# Altium schematic symbol library Mercury2.SchLib: 61 symbols
Pins are listed as number, name and electrical type; pins without a type are passive.

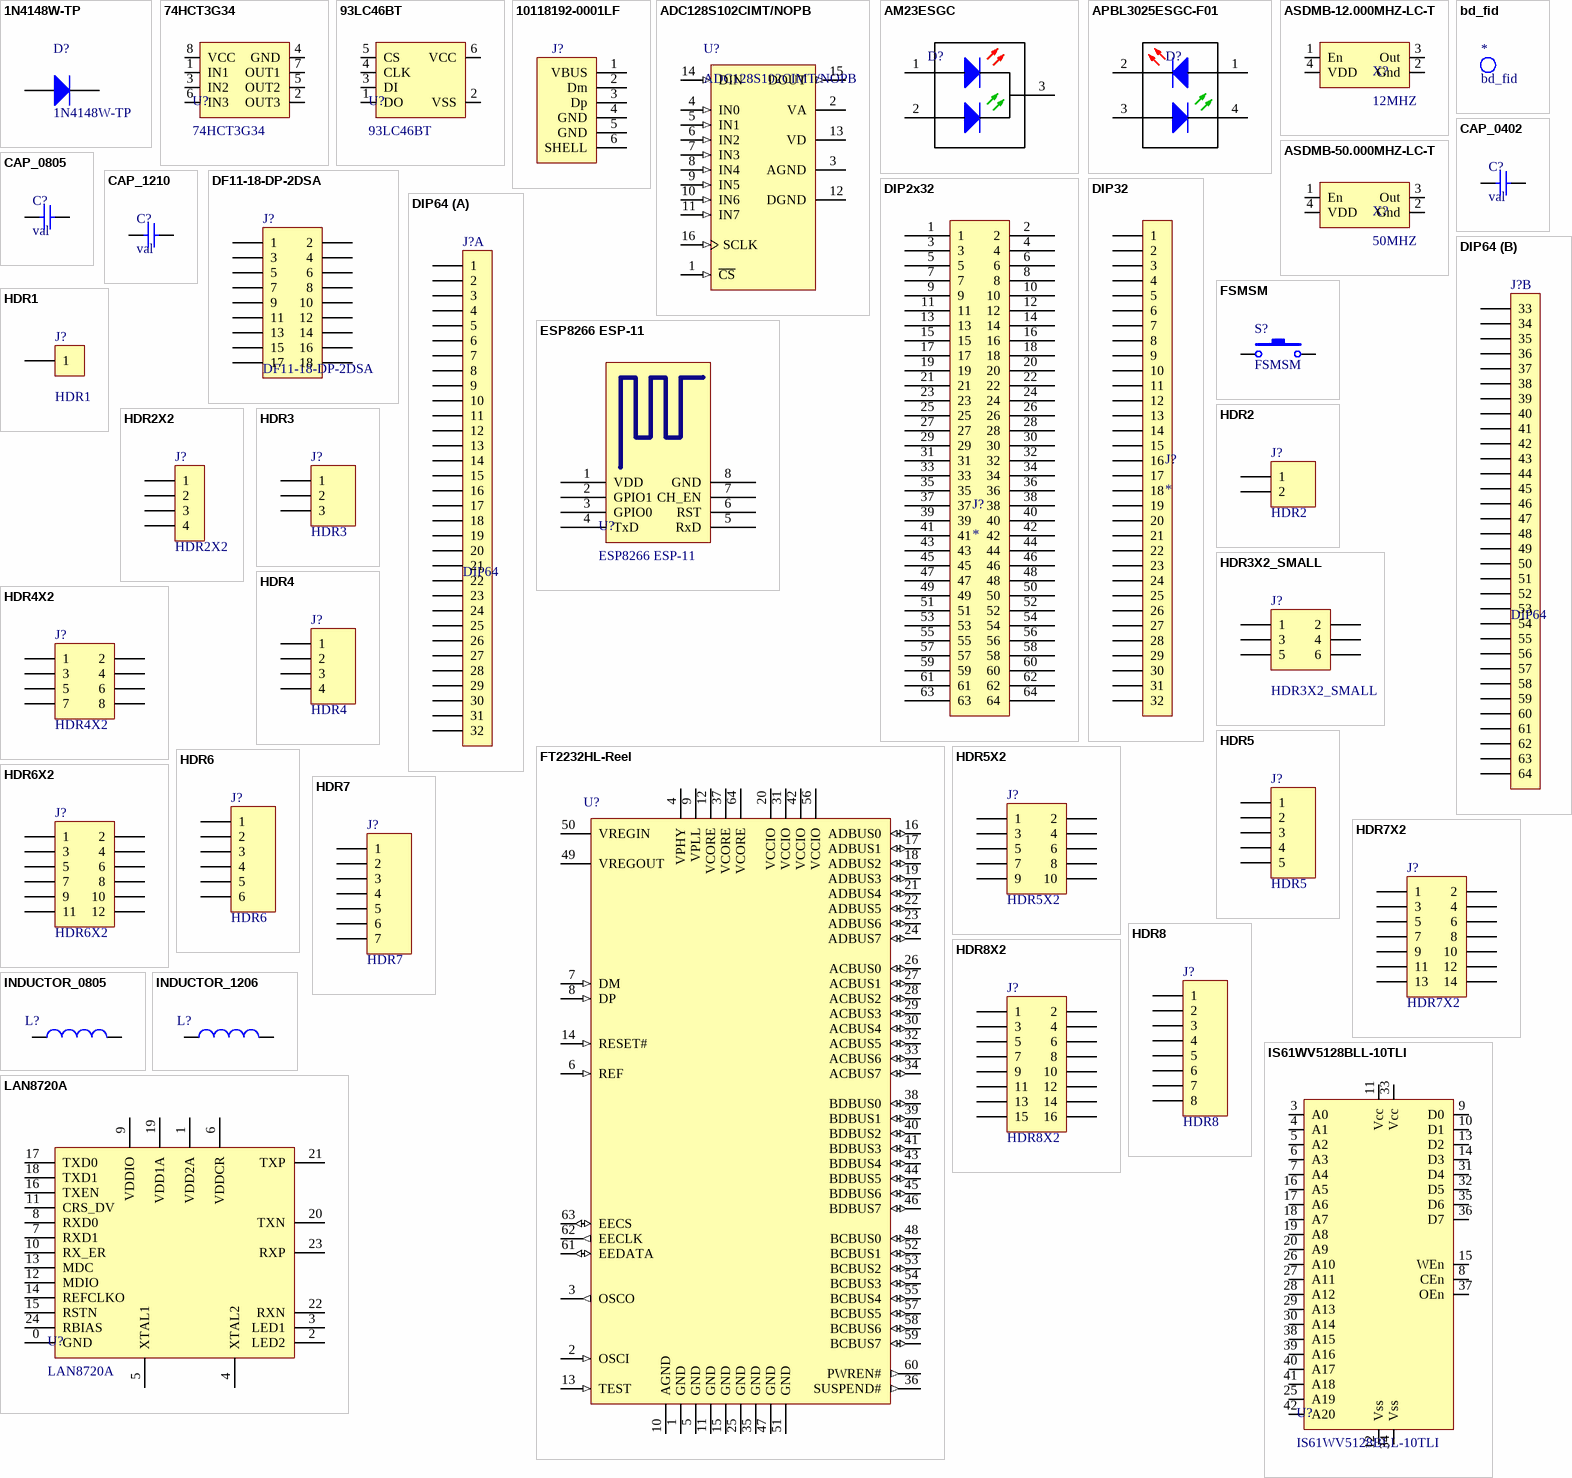
[diagram p0: symbols 1N4148W-TP to LAN8720A]

## 1N4148W-TP
designator D?
Diodes - General Purpose, Power, Switching 150mA 75V
footprint SOD-123 (Surface Mount Diode Package)
pins: 1 A, 2 K

## 74HCT3G34
designator U?
IC BUFFER TRIPLE NON-INV 8TSSOP
footprint TSSOP-8
pins: 1 IN1, 2 OUT3, 3 IN2, 4 GND, 5 OUT2, 6 IN3, 7 OUT1, 8 VCC

## 93LC46BT
designator U?
EEPROM 64x16
footprint SOT23-6
pins: 1 DO, 2 VSS, 3 DI, 4 CLK, 5 CS, 6 VCC

## 10118192-0001LF
designator J?, comment Micro USB B  (value not drawn)
5P MICRO USB TYPE B RECEPTACLE; MFG: FCI; MFG_PN: 10118192-0001LF
footprint 10118192-0001LF (FCI 5P MICRO USB TYPE B RECEPTACLE)
pins: 1 VBUS, 2 Dm, 3 Dp, 4 GND, 5 GND, 6 SHELL

## ADC128S102CIMT/NOPB
designator U?
ADC 8CH, 500KSPS TO 1MSPS 12B ADC; MFG: TI; MFG_PN: ADC128S102CIMT/NOPB
footprint MTC16_L (TSOP, 16-Leads, Body 5x4.4mm, Pitch 0.65mm, IPC High Density)
pins: 1 ~{CS} (in), 2 VA (power), 3 AGND (power), 4 IN0 (in), 5 IN1 (in), 6 IN2 (in), 7 IN3 (in), 8 IN4 (in), 9 IN5 (in), 10 IN6 (in), 11 IN7 (in), 12 DGND (power), 13 VD (power), 14 DIN (in), 15 DOUT (out), 16 SCLK (in)

## AM23ESGC
designator D?  (value not drawn)
SOT-23 SURFACE MOUNT LED LAMP
footprint SOT23-3N (SOT23, 3-Leads, Body 2.9x1.3mm, Pitch 0.95mm, Lead Span 2.5mm, IPC Medium Density)
pins: 1, 2, 3

## APBL3025ESGC-F01
designator D?  (value not drawn)
SMD RED/GREEN LED
footprint APBL3025ESGC
pins: 1, 2, 3, 4

## ASDMB-12.000MHZ-LC-T
designator X?, comment 12MHZ
ASDMB-12.000MHZ-LC-T
footprint ASDMB (MEMS Oscillator, 2mm W x 2.5 mm L)
pins: 1 En, 2 Gnd, 3 Out, 4 VDD

## ASDMB-50.000MHZ-LC-T
designator X?, comment 50MHZ
OSC MEMS 50.000 MHZ SMD; MFG: Abracon; MFG_PN: ASDMB-50.000MHZ-LC-T
footprint ASDMB (MEMS Oscillator, 2mm W x 2.5 mm L)
pins: 1 En, 2 Gnd, 3 Out, 4 VDD

## bd_fid
designator *  (no BOM)
board fiducial
footprint bd_fid

## CAP_0402
designator C?, comment val
Cap 0402
footprint C_0402 (Chip Capacitor, 2-Leads, Body 1.00x0.50mm)
pins: 1, 2

## CAP_0805
designator C?, comment val
Cap 0805
footprint C_0805 (Chip Capacitor; Body 2.0 x 1.2 mm (LxW typ))
pins: 1, 2

## CAP_1210
designator C?, comment val
Cap 1210
footprint C_1210 (Chip Capacitor, Body 3.2x2.5mm, Height 1mm, IPC Medium Density)
pins: 1, 2

## DF11-18-DP-2DSA
designator J?
Straight Pin Header
footprint DF11-18DP-2DSA
pins: 1, 2, 3, 4, 5, 6, 7, 8, 9, 10, 11, 12, 13, 14, 15, 16, 17, 18

## DIP2x32
designator J?
footprint DIP2x32
pins: 1, 2, 3, 4, 5, 6, 7, 8, 9, 10, 11, 12, 13, 14, 15, 16, 17, 18, 19, 20, 21, 22, 23, 24, 25, 26, 27, 28, 29, 30, 31, 32, 33, 34, 35, 36, 37, 38, 39, 40, 41, 42, 43, 44, 45, 46, 47, 48, 49, 50, 51, 52, 53, 54, 55, 56, 57, 58, 59, 60, 61, 62, 63, 64

## DIP32
designator J?
footprint DIP32
pins: 1, 2, 3, 4, 5, 6, 7, 8, 9, 10, 11, 12, 13, 14, 15, 16, 17, 18, 19, 20, 21, 22, 23, 24, 25, 26, 27, 28, 29, 30, 31, 32

## DIP64
designator J?
64PIN DIP PACKAGE
footprint dip64
part A pins: 1, 2, 3, 4, 5, 6, 7, 8, 9, 10, 11, 12, 13, 14, 15, 16, 17, 18, 19, 20, 21, 22, 23, 24, 25, 26, 27, 28, 29, 30, 31, 32
part B pins: 33, 34, 35, 36, 37, 38, 39, 40, 41, 42, 43, 44, 45, 46, 47, 48, 49, 50, 51, 52, 53, 54, 55, 56, 57, 58, 59, 60, 61, 62, 63, 64

## ESP8266 ESP-11
designator U?
footprint ESP8266 ESP-11
pins: 1 VDD, 2 GPIO1, 3 GPIO0, 4 TxD, 5 RxD, 6 RST, 7 CH_EN, 8 GND

## FSMSM
designator S?
Tactile Switches 3.5X6 SMT; MFG: TE Connectivity; MFG_PN: FSMSM
footprint FSMSM (Tactile Switches 3.5X6 SMT)
pins: 1, 2

## FT2232HL-Reel
designator U?
Dual High Speed USB To Multipurpose UART/FIFO IC, 64-pin LQFP, Tape and Reel; Manufacturer: FTDI; PartNumber: FT2232HL-Reel; DatasheetVersion: ver 2.21, Jun-2012; PackageVersion: Jun-12; PackageReference: LQFP-64; PackageDescription: 64-Pin Thin Quad Flat Pack, 10 x 10 x 1.4 mm Body, 0.5 mm Pitch; ComponentLink1Description: Manufacturer URL; ComponentLink1URL: http://www.ftdichip.com/; ComponentLink2Description: Datasheet; ComponentLink2URL: http://www.ftdichip.com/Support/Documents/DataSheets/ICs/DS_FT2232H.pdf
footprint LQFP-64_N (Thin QFP, 64-Leads, Body 10x10mm, Pitch 0.5mm, IPC Medium Density)
footprint LQFP-64_L (Thin QFP, 64-Leads, Body 10x10mm, Pitch 0.5mm, IPC High Density)
footprint LQFP-64_M (Thin QFP, 64-Leads, Body 10x10mm, Pitch 0.5mm, IPC Low Density)
pins: 1 GND (power), 2 OSCI (in), 3 OSCO (out), 4 VPHY (power), 5 GND (power), 6 REF (in), 7 DM (in), 8 DP (in), 9 VPLL (power), 10 AGND (power), 11 GND (power), 12 VCORE (power), 13 TEST (in), 14 RESET# (in), 15 GND (power), 16 ADBUS0 (io), 17 ADBUS1 (io), 18 ADBUS2 (io), 19 ADBUS3 (io), 20 VCCIO (power), 21 ADBUS4 (io), 22 ADBUS5 (io), 23 ADBUS6 (io), 24 ADBUS7 (io), 25 GND (power), 26 ACBUS0 (io), 27 ACBUS1 (io), 28 ACBUS2 (io), 29 ACBUS3 (io), 30 ACBUS4 (io), 31 VCCIO (power), 32 ACBUS5 (io), 33 ACBUS6 (io), 34 ACBUS7 (io), 35 GND (power), 36 SUSPEND# (out), 37 VCORE (power), 38 BDBUS0 (io), 39 BDBUS1 (io), 40 BDBUS2 (io), 41 BDBUS3 (io), 42 VCCIO (power), 43 BDBUS4 (io), 44 BDBUS5 (io), 45 BDBUS6 (io), 46 BDBUS7 (io), 47 GND (power), 48 BCBUS0 (io), 49 VREGOUT (power), 50 VREGIN (power), 51 GND (power), 52 BCBUS1 (io), 53 BCBUS2 (io), 54 BCBUS3 (io), 55 BCBUS4 (io), 56 VCCIO (power), 57 BCBUS5 (io), 58 BCBUS6 (io), 59 BCBUS7 (io), 60 PWREN# (out), 61 EEDATA (io), 62 EECLK (out), 63 EECS (io), 64 VCORE (power)

## HDR1
designator J?
Header, 1-Pin
footprint HDR1X1
pins: 1

## HDR2
designator J?
Header, 2-Pin
footprint HDR1X2 (Footprint not found)
pins: 1, 2

## HDR2X2
designator J?
Header, 2-Pin, Dual row
footprint HDR2X2 (Footprint not found)
pins: 1, 2, 3, 4

## HDR3
designator J?
Header, 3-Pin
footprint HDR1X3
pins: 1, 2, 3

## HDR3X2_SMALL
designator J?
Header, 3-Pin, Dual row
footprint HDR2X3_S
pins: 1, 2, 3, 4, 5, 6

## HDR4
designator J?
Header, 4-Pin
footprint HDR1X4
pins: 1, 2, 3, 4

## HDR4X2
designator J?
Header, 4-Pin, Dual row
footprint HDR2X4
pins: 1, 2, 3, 4, 5, 6, 7, 8

## HDR5
designator J?
Header, 5-Pin
footprint HDR1X5
pins: 1, 2, 3, 4, 5

## HDR5X2
designator J?
Header, 5-Pin, Dual row
footprint HDR2X5
pins: 1, 2, 3, 4, 5, 6, 7, 8, 9, 10

## HDR6
designator J?
Header, 6-Pin
footprint HDR1X6
pins: 1, 2, 3, 4, 5, 6

## HDR6X2
designator J?
Header, 6-Pin, Dual row
footprint HDR2X6
pins: 1, 2, 3, 4, 5, 6, 7, 8, 9, 10, 11, 12

## HDR7
designator J?
Header, 7-Pin
footprint HDR1X7
pins: 1, 2, 3, 4, 5, 6, 7

## HDR7X2
designator J?
Header, 7-Pin, Dual row
footprint HDR2X7 (Connector; Header; 7x2 Position)
pins: 1, 2, 3, 4, 5, 6, 7, 8, 9, 10, 11, 12, 13, 14

## HDR8
designator J?
Header, 8-Pin
footprint HDR1X8
pins: 1, 2, 3, 4, 5, 6, 7, 8

## HDR8X2
designator J?
Header, 8-Pin, Dual row
footprint HDR2X8 (Connector; Header; 8x2 Position)
pins: 1, 2, 3, 4, 5, 6, 7, 8, 9, 10, 11, 12, 13, 14, 15, 16

## INDUCTOR_0805
designator L?  (value not drawn)
INDUCTOR
footprint R_0805 (Chip Resistor; Body 2.0 x 1.3 mm (LxW typ))
pins: 1, 2

## INDUCTOR_1206
designator L?  (value not drawn)
INDUCTOR
footprint R_1206 (Chip Resistor; Body 3.2 x 1.6 mm (LxW typ))
pins: 1, 2

## IS61WV5128BLL-10TLI
designator U?
SRAM 4Mb (512k x 8) 10ns Async SRAM 3.3v
footprint TSOPII-44 (44-Pin Small Outline Package 0.8 mm Pitch, IPC Medium Density)
pins: 3 A0, 4 A1, 5 A2, 6 A3, 7 A4, 8 CEn, 9 D0, 10 D1, 11 Vcc, 12 Vss, 13 D2, 14 D3, 15 WEn, 16 A5, 17 A6, 18 A7, 19 A8, 20 A9, 25 A19, 26 A10, 27 A11, 28 A12, 29 A13, 30 A14, 31 D4, 32 D5, 33 Vcc, 34 Vss, 35 D6, 36 D7, 37 OEn, 38 A15, 39 A16, 40 A17, 41 A18, 42 A20

## LAN8720A
designator U?
Ethernet ICs RMII 10/100 ETH XCVR w/HP AutoMDIXSupport
footprint QFN-24-EP (24 Pin QFN with exposed pad 0.5mm spacing)
pins: 0 GND, 1 VDD2A, 2 LED2, 3 LED1, 4 XTAL2, 5 XTAL1, 6 VDDCR, 7 RXD1, 8 RXD0, 9 VDDIO, 10 RX_ER, 11 CRS_DV, 12 MDIO, 13 MDC, 14 REFCLKO, 15 RSTN, 16 TXEN, 17 TXD0, 18 TXD1, 19 VDD1A, 20 TXN, 21 TXP, 22 RXN, 23 RXP, 24 RBIAS

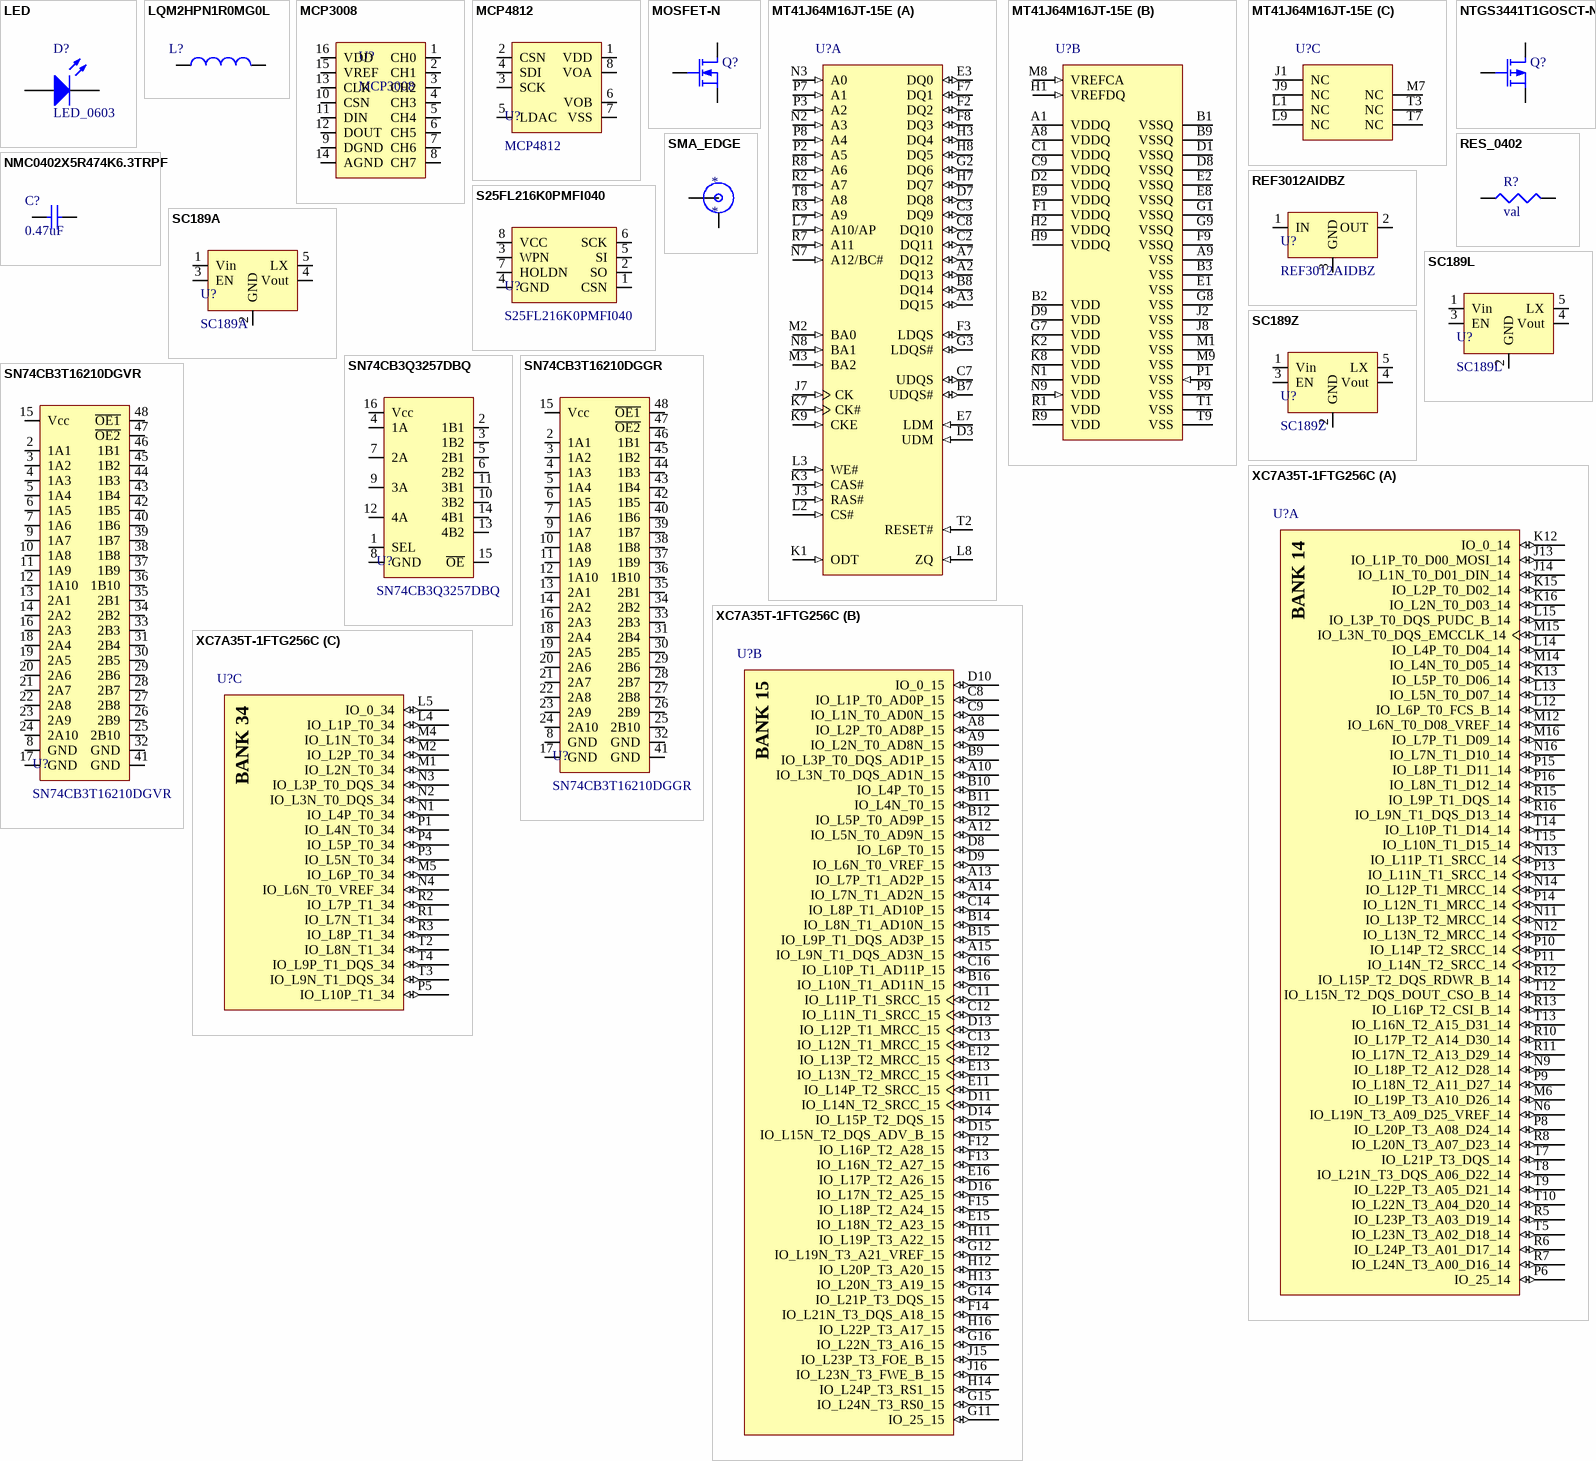
[diagram p1: symbols LED to XC7A35T-1FTG256C]

## LED
designator D?, comment LED_0603
MFG: Lite-On; MFG_PN: LTST-C194TBKT
footprint LED_0603 (from liteon datasheet, LTST-C194TBKT)
pins: A, C

## LQM2HPN1R0MG0L
designator L?  (value not drawn)
Fixed Inductors 1008 1.0uH 20%
footprint L_1008 (Footprint not found)
pins: 1, 2

## MCP3008
designator U?
IC ADC 10BIT 2.7V 8CH SPI 16SOIC
footprint SO16 (Small Outline; 16 Leads; Body Width 3.9 mm; Pitch 1.27 mm)
pins: 1 CH0, 2 CH1, 3 CH2, 4 CH3, 5 CH4, 6 CH5, 7 CH6, 8 CH7, 9 DGND, 10 CSN, 11 DIN, 12 DOUT, 13 CLK, 14 AGND, 15 VREF, 16 VDD

## MCP4812
designator U?
DAC Dual 10bit DAC w/SPI interface intnl Vref
footprint MSOP-8
pins: 1 VDD, 2 CSN, 3 SCK, 4 SDI, 5 LDAC, 6 VOB, 7 VSS, 8 VOA

## MOSFET-N
designator Q?
N-Channel MOSFET; Published: 8-Jun-2000; LatestRevisionDate: 17-Jul-2002; LatestRevisionNote: Re-released for DXP Platform.; PackageVersion: 1995/1996; PackageReference: E3; Publisher: Altium Limited
footprint SOT23-3N (SOT23, 3-Leads, Body 2.9x1.3mm, Pitch 0.95mm, Lead Span 2.5mm, IPC Medium Density)
pins: 1 G, 2 S, 3 D

## MT41J64M16JT-15E
designator U?
DDR3 SDRAM 1G-Bit 64Mx16 1.5V 96-Pin FBGA; MFG: Micron; MFG_PN: MT41J64M16JT-15E:G
footprint MICT-JT-96 (BGA, 96-Balls, Body 14x8mm, Pitch 0.8mm)
part A pins: A2 DQ13 (io) "Data input/output: Upper byte of bidirectional data bus for the x16 configuration. DQ[15:8] are referenced to VREFDQ.", A3 DQ15 (io) "Data input/output: Upper byte of bidirectional data bus for the x16 configuration. DQ[15:8] are referenced to VREFDQ.", A7 DQ12 (io) "Data input/output: Upper byte of bidirectional data bus for the x16 configuration. DQ[15:8] are referenced to VREFDQ.", B7 UDQS# (io) "Upper byte data strobe: Output with read data. Edge-aligned with read data. Input with write data. DQS is center-aligned to write data.", B8 DQ14 (io) "Data input/output: Upper byte of bidirectional data bus for the x16 configuration. DQ[15:8] are referenced to VREFDQ.", C2 DQ11 (io) "Data input/output: Upper byte of bidirectional data bus for the x16 configuration. DQ[15:8] are referenced to VREFDQ.", C3 DQ9 (io) "Data input/output: Upper byte of bidirectional data bus for the x16 configuration. DQ[15:8] are referenced to VREFDQ.", C7 UDQS (io) "Upper byte data strobe: Output with read data. Edge-aligned with read data. Input with write data. DQS is center-aligned to write data.", C8 DQ10 (io) "Data input/output: Upper byte of bidirectional data bus for the x16 configuration. DQ[15:8] are referenced to VREFDQ.", D3 UDM (in) "Input data mask: UDM is an upper-byte, input mask signal for write data. Upperbyte input data is masked when UDM is sampled HIGH along with that input data during a WRITE access. Although the UDM ball is input-only, the UDM (See Datasheet)", D7 DQ8 (io) "Data input/output: Upper byte of bidirectional data bus for the x16 configuration. DQ[15:8] are referenced to VREFDQ.", E3 DQ0 (io) "Data input/output: Lower byte of bidirectional data bus for the x16 configuration. DQ[7:0] are referenced to VREFDQ.", E7 LDM (in) "Input data mask: LDM is a lower-byte, input mask signal for write data. Lower-byte input data is masked when LDM is sampled HIGH along with the input data during a write access. Although the LDM ball is input-only, the LDM (See Datasheet)", F2 DQ2 (io) "Data input/output: Lower byte of bidirectional data bus for the x16 configuration. DQ[7:0] are referenced to VREFDQ.", F3 LDQS (io) "Lower byte data strobe: Output with read data. Edge-aligned with read data. Input with write data. Center-aligned to write data.", F7 DQ1 (io) "Data input/output: Lower byte of bidirectional data bus for the x16 configuration. DQ[7:0] are referenced to VREFDQ.", F8 DQ3 (io) "Data input/output: Lower byte of bidirectional data bus for the x16 configuration. DQ[7:0] are referenced to VREFDQ.", G2 DQ6 (io) "Data input/output: Lower byte of bidirectional data bus for the x16 configuration. DQ[7:0] are referenced to VREFDQ.", G3 LDQS# (io) "Lower byte data strobe: Output with read data. Edge-aligned with read data. Input with write data. Center-aligned to write data.", H3 DQ4 (io) "Data input/output: Lower byte of bidirectional data bus for the x16 configuration. DQ[7:0] are referenced to VREFDQ.", H7 DQ7 (io) "Data input/output: Lower byte of bidirectional data bus for the x16 configuration. DQ[7:0] are referenced to VREFDQ.", H8 DQ5 (io) "Data input/output: Lower byte of bidirectional data bus for the x16 configuration. DQ[7:0] are referenced to VREFDQ.", J3 RAS# (in) "Command inputs: RAS#, CAS#, and WE# (along with CS#) define the command being entered and are referenced to VREFCA.", J7 CK (in) "Clock: CK and CK# are differential clock inputs. All control and address input signals are sampled on the crossing of the positive edge of CK and the negative edge of CK#. Output data strobe (DQS, DQS#) is referenced to the (See Datasheet)", K1 ODT (in) "On-die termination: ODT enables (registered HIGH) and disables (registered LOW) termination resistance internal to the DDR3 SDRAM. When enabled in normal operation, ODT is only applied to each of the following balls: (See Datasheet)", K3 CAS# (in) "Command inputs: RAS#, CAS#, and WE# (along with CS#) define the command being entered and are referenced to VREFCA.", K7 CK# (in) "Clock: CK and CK# are differential clock inputs. All control and address input signals are sampled on the crossing of the positive edge of CK and the negative edge of CK#. Output data strobe (DQS, DQS#) is referenced to the (See Datasheet)", K9 CKE (in) "Clock enable: CKE enables (registered HIGH) and disables (registered LOW) internal circuitry and clocks on the DRAM. The specific circuitry that is enabled/disabled is dependent upon the DDR3 SDRAM configuration and (See Datasheet)", L2 CS# (in) "Chip select: CS# enables (registered LOW) and disables (registered HIGH) the command decoder. All commands are masked when CS# is registered HIGH. CS# provides for external rank selection on systems with multiple ranks. CS# (See Datasheet)", L3 WE# (in) "Command inputs: RAS#, CAS#, and WE# (along with CS#) define the command being entered and are referenced to VREFCA.", L7 A10/AP (in) "Address inputs: Provide the row address for ACTIVATE commands, and the column address and auto precharge bit (A10) for READ/WRITE commands, to select one location out of the memory array in the respective bank. A10 sampled (See Datasheet)", L8 ZQ (in) "External reference ball for output drive calibration: This ball is tied to an external 240ohm resistor (RZQ), which is tied to VSSQ.", M2 BA0 (in) "Bank address inputs: BA[2:0] define the bank to which an ACTIVATE, READ, WRITE, or PRECHARGE command is being applied. BA[2:0] define which mode register (MR0, MR1, MR2, or MR3) is loaded during the LOAD MODE command. (See Datasheet)", M3 BA2 (in) "Bank address inputs: BA[2:0] define the bank to which an ACTIVATE, READ, WRITE, or PRECHARGE command is being applied. BA[2:0] define which mode register (MR0, MR1, MR2, or MR3) is loaded during the LOAD MODE command. (See Datasheet)", N2 A3 (in) "Address inputs: Provide the row address for ACTIVATE commands, and the column address and auto precharge bit (A10) for READ/WRITE commands, to select one location out of the memory array in the respective bank. A10 sampled (See Datasheet)", N3 A0 (in) "Address inputs: Provide the row address for ACTIVATE commands, and the column address and auto precharge bit (A10) for READ/WRITE commands, to select one location out of the memory array in the respective bank. A10 sampled (See Datasheet)", N7 A12/BC# (in) "Address inputs: Provide the row address for ACTIVATE commands, and the column address and auto precharge bit (A10) for READ/WRITE commands, to select one location out of the memory array in the respective bank. A10 sampled (See Datasheet)", N8 BA1 (in) "Bank address inputs: BA[2:0] define the bank to which an ACTIVATE, READ, WRITE, or PRECHARGE command is being applied. BA[2:0] define which mode register (MR0, MR1, MR2, or MR3) is loaded during the LOAD MODE command. (See Datasheet)", P2 A5 (in) "Address inputs: Provide the row address for ACTIVATE commands, and the column address and auto precharge bit (A10) for READ/WRITE commands, to select one location out of the memory array in the respective bank. A10 sampled (See Datasheet)", P3 A2 (in) "Address inputs: Provide the row address for ACTIVATE commands, and the column address and auto precharge bit (A10) for READ/WRITE commands, to select one location out of the memory array in the respective bank. A10 sampled (See Datasheet)", P7 A1 (in) "Address inputs: Provide the row address for ACTIVATE commands, and the column address and auto precharge bit (A10) for READ/WRITE commands, to select one location out of the memory array in the respective bank. A10 sampled (See Datasheet)", P8 A4 (in) "Address inputs: Provide the row address for ACTIVATE commands, and the column address and auto precharge bit (A10) for READ/WRITE commands, to select one location out of the memory array in the respective bank. A10 sampled (See Datasheet)", R2 A7 (in) "Address inputs: Provide the row address for ACTIVATE commands, and the column address and auto precharge bit (A10) for READ/WRITE commands, to select one location out of the memory array in the respective bank. A10 sampled (See Datasheet)", R3 A9 (in) "Address inputs: Provide the row address for ACTIVATE commands, and the column address and auto precharge bit (A10) for READ/WRITE commands, to select one location out of the memory array in the respective bank. A10 sampled (See Datasheet)", R7 A11 (in) "Address inputs: Provide the row address for ACTIVATE commands, and the column address and auto precharge bit (A10) for READ/WRITE commands, to select one location out of the memory array in the respective bank. A10 sampled (See Datasheet)", R8 A6 (in) "Address inputs: Provide the row address for ACTIVATE commands, and the column address and auto precharge bit (A10) for READ/WRITE commands, to select one location out of the memory array in the respective bank. A10 sampled (See Datasheet)", T2 RESET# (in) "Reset: RESET# is an active LOW CMOS input referenced to VSS . The RESET# input receiver is a CMOS input defined as a rail-to-rail signal with DC HIGH >= 0.8 x VDD and DC LOW =< 0.2 x VDDQ. RESET# assertion and desertion are (See Datasheet)", T8 A8 (in) "Address inputs: Provide the row address for ACTIVATE commands, and the column address and auto precharge bit (A10) for READ/WRITE commands, to select one location out of the memory array in the respective bank. A10 sampled (See Datasheet)"
part B pins: A1 VDDQ (power) "DQ power supply: 1.5V +/-0.075V. Isolated on the device for improved noise immunity.", A8 VDDQ (power) "DQ power supply: 1.5V +/-0.075V. Isolated on the device for improved noise immunity.", A9 VSS (power) "Ground.", B1 VSSQ (power) "DQ ground: Isolated on the device for improved noise immunity.", B2 VDD (power) "Power supply: 1.5V +/-0.075V.", B3 VSS (power) "Ground.", B9 VSSQ (power) "DQ ground: Isolated on the device for improved noise immunity.", C1 VDDQ (power) "DQ power supply: 1.5V +/-0.075V. Isolated on the device for improved noise immunity.", C9 VDDQ (power) "DQ power supply: 1.5V +/-0.075V. Isolated on the device for improved noise immunity.", D1 VSSQ (power) "DQ ground: Isolated on the device for improved noise immunity.", D2 VDDQ (power) "DQ power supply: 1.5V +/-0.075V. Isolated on the device for improved noise immunity.", D8 VSSQ (power) "DQ ground: Isolated on the device for improved noise immunity.", D9 VDD (power) "Power supply: 1.5V +/-0.075V.", E1 VSS (power) "Ground.", E2 VSSQ (power) "DQ ground: Isolated on the device for improved noise immunity.", E8 VSSQ (power) "DQ ground: Isolated on the device for improved noise immunity.", E9 VDDQ (power) "DQ power supply: 1.5V +/-0.075V. Isolated on the device for improved noise immunity.", F1 VDDQ (power) "DQ power supply: 1.5V +/-0.075V. Isolated on the device for improved noise immunity.", F9 VSSQ (power) "DQ ground: Isolated on the device for improved noise immunity.", G1 VSSQ (power) "DQ ground: Isolated on the device for improved noise immunity.", G7 VDD (power) "Power supply: 1.5V +/-0.075V.", G8 VSS (power) "Ground.", G9 VSSQ (power) "DQ ground: Isolated on the device for improved noise immunity.", H1 VREFDQ (in) "Reference voltage for data: VREFDQ must be maintained at all times (excluding self refresh) for proper device operation.", H2 VDDQ (power) "DQ power supply: 1.5V +/-0.075V. Isolated on the device for improved noise immunity.", H9 VDDQ (power) "DQ power supply: 1.5V +/-0.075V. Isolated on the device for improved noise immunity.", J2 VSS (power) "Ground.", J8 VSS (power) "Ground.", K2 VDD (power) "Power supply: 1.5V +/-0.075V.", K8 VDD (power) "Power supply: 1.5V +/-0.075V.", M1 VSS (power) "Ground.", M8 VREFCA (in) "Reference voltage for control, command, and address: VREFCA must be maintained at all times (including self refresh) for proper device operation.", M9 VSS (power) "Ground.", N1 VDD (power) "Power supply: 1.5V +/-0.075V.", N9 VDD (in) "Power supply: 1.5V +/-0.075V.", P1 VSS (in) "Ground.", P9 VSS (power) "Ground.", R1 VDD (power) "Power supply: 1.5V +/-0.075V.", R9 VDD (power) "Power supply: 1.5V +/-0.075V.", T1 VSS (power) "Ground.", T9 VSS (power) "Ground."
part C pins: J1 NC "No connect: These balls should be left unconnected (the ball has no connection to the DRAM or to other balls).", J9 NC "No connect: These balls should be left unconnected (the ball has no connection to the DRAM or to other balls).", L1 NC "No connect: These balls should be left unconnected (the ball has no connection to the DRAM or to other balls).", L9 NC "No connect: These balls should be left unconnected (the ball has no connection to the DRAM or to other balls).", M7 NC "No connect: These balls should be left unconnected (the ball has no connection to the DRAM or to other balls).", T3 NC "No connect: These balls should be left unconnected (the ball has no connection to the DRAM or to other balls).", T7 NC "No connect: These balls should be left unconnected (the ball has no connection to the DRAM or to other balls)."

## NMC0402X5R474K6.3TRPF
designator C?, comment 0.47uF
Cap Ceramic 0.47uF 6.3V X5R 10% SMD 0402 85°C; MFG: NIC; MFG_PN: NMC0402X5R474K6.3TRPF
footprint C_0402_N (Chip Capacitor, Body 0.4x0.2mm, Height 0.22mm, IPC Medium Density)
pins: 1, 2

## NTGS3441T1GOSCT-ND
designator Q?, comment MOSFET P  (value not drawn)
MOSFET P-CH 20V 1.65A 6-TSOP
footprint TSSOP-6
pins: 1 D, 3 G, 4 S

## REF3012AIDBZ
designator U?
IC VREF SERIES 1.25V SOT23-3
footprint SOT23-3N (SOT23, 3-Leads, Body 2.9x1.3mm, Pitch 0.95mm, Lead Span 2.5mm, IPC Medium Density)
pins: 1 IN, 2 OUT, 3 GND

## RES_0402
designator R?, comment val
footprint R_0402 (Chip Resistor; Body 1.1 x 0.5 mm (LxW typ))
pins: 1, 2

## S25FL216K0PMFI040
designator U?
Flash 16Mb 3V 65MHz Serial NOR Flash; MFG: Spansion; MFG_PN: S25FL216K0PMFI040
footprint SOIC8_150MIL (8-Pin SOIC 150-mil package)
pins: 1 CSN, 2 SO, 3 WPN, 4 GND, 5 SI, 6 SCK, 7 HOLDN, 8 VCC

## SC189A
designator U?
IC REG BUCK 1V 1.5A SYNC SOT23-5
footprint SOT23-5
pins: 1 Vin, 2 GND, 3 EN, 4 Vout, 5 LX

## SC189L
designator U?
IC REG BUCK 1.8V 1.5A SYNC SOT23
footprint SOT23-5
pins: 1 Vin, 2 GND, 3 EN, 4 Vout, 5 LX

## SC189Z
designator U?
IC REG BUCK 3.3V 1.5A SYNC SOT23
footprint SOT23-5
pins: 1 Vin, 2 GND, 3 EN, 4 Vout, 5 LX

## SMA_EDGE
designator *
footprint sma_edge (Footprint not found)
pins: 1, g

## SN74CB3Q3257DBQ
designator U?
Multiplexer Switch ICs 4-Bit One-of-2 FET Mltplxr/Demltplxr
footprint dbq16 (SSOP; 16 Leads; Body Width 5 mm; Pitch 0.64 mm)
pins: 1 SEL, 2 1B1, 3 1B2, 4 1A, 5 2B1, 6 2B2, 7 2A, 8 GND, 9 3A, 10 3B2, 11 3B1, 12 4A, 13 4B2, 14 4B1, 15 ~{OE}, 16 Vcc

## SN74CB3T16210DGGR
designator U?
Digital Bus Switch ICs 20B FET Bus Switch
footprint DGG48_L (TSSOP, 48-Leads, Body 12.5x6.1mm, Pitch 0.5mm, IPC High Density)
pins: 2 1A1, 3 1A2, 4 1A3, 5 1A4, 6 1A5, 7 1A6, 8 GND, 9 1A7, 10 1A8, 11 1A9, 12 1A10, 13 2A1, 14 2A2, 15 Vcc, 16 2A3, 17 GND, 18 2A4, 19 2A5, 20 2A6, 21 2A7, 22 2A8, 23 2A9, 24 2A10, 25 2B10, 26 2B9, 27 2B8, 28 2B7, 29 2B6, 30 2B5, 31 2B4, 32 GND, 33 2B3, 34 2B2, 35 2B1, 36 1B10, 37 1B9, 38 1B8, 39 1B7, 40 1B6, 41 GND, 42 1B5, 43 1B4, 44 1B3, 45 1B2, 46 1B1, 47 ~{OE2}, 48 ~{OE1}

## SN74CB3T16210DGVR
designator U?
Digital Bus Switch ICs 20B FET Bus Switch
footprint DGV48_N (TVSOP, 48-Leads, Body 9.7x4.4mm, Pitch 0.4mm, IPC Medium Density)
pins: 2 1A1, 3 1A2, 4 1A3, 5 1A4, 6 1A5, 7 1A6, 8 GND, 9 1A7, 10 1A8, 11 1A9, 12 1A10, 13 2A1, 14 2A2, 15 Vcc, 16 2A3, 17 GND, 18 2A4, 19 2A5, 20 2A6, 21 2A7, 22 2A8, 23 2A9, 24 2A10, 25 2B10, 26 2B9, 27 2B8, 28 2B7, 29 2B6, 30 2B5, 31 2B4, 32 GND, 33 2B3, 34 2B2, 35 2B1, 36 1B10, 37 1B9, 38 1B8, 39 1B7, 40 1B6, 41 GND, 42 1B5, 43 1B4, 44 1B3, 45 1B2, 46 1B1, 47 ~{OE2}, 48 ~{OE1}

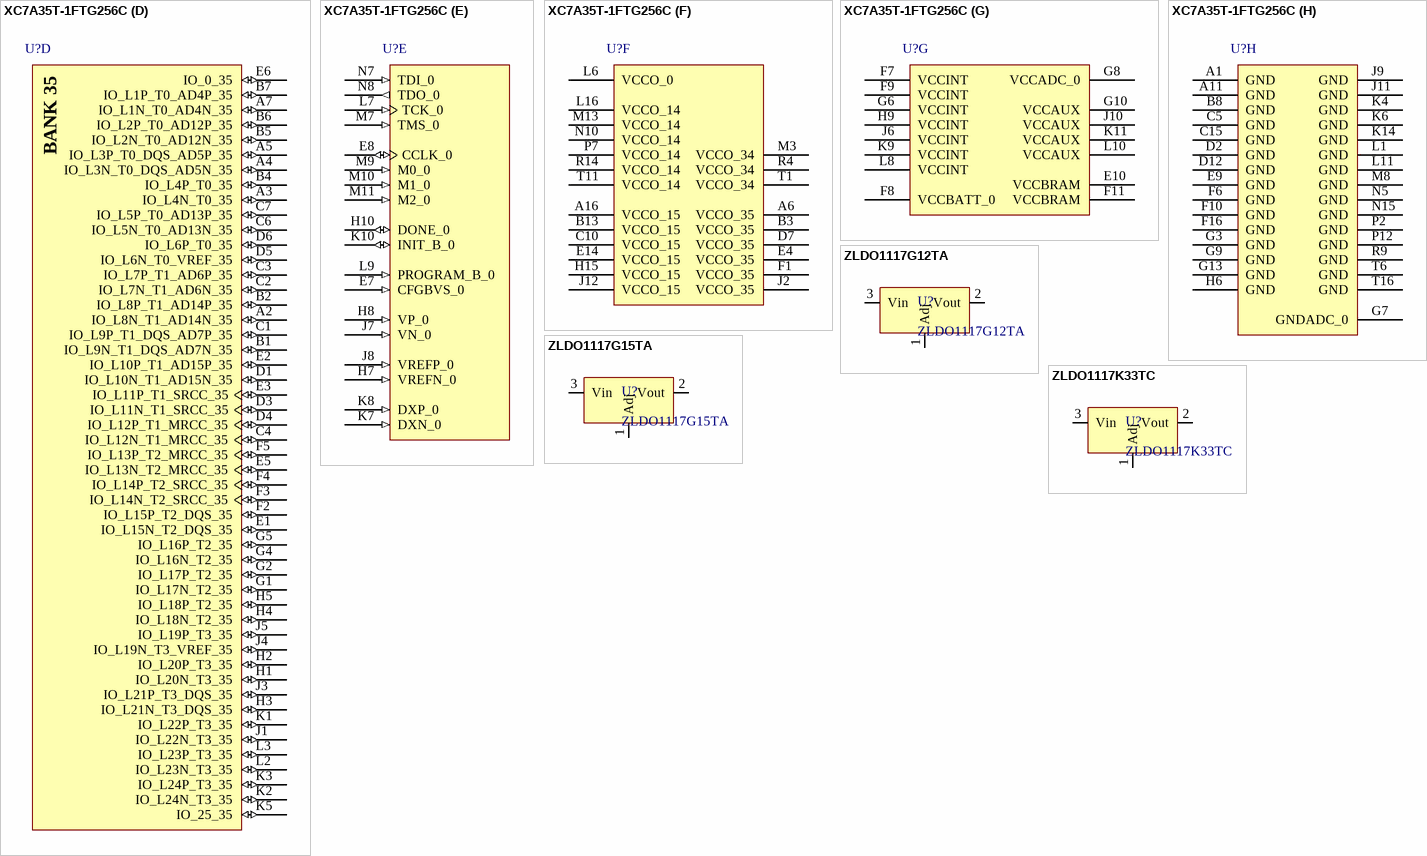
[diagram p2: symbols XC7A35T-1FTG256C to ZLDO1117K33TC]

## XC7A35T-1FTG256C
designator U?
Artix-7 FPGA, 170 User I/Os, 0 GTP, 256-Ball BGA, Speed Grade 1, Commercial Grade, Pb-Free; Manufacturer: Xilinx; Total Block RAM: 1800 Kb; GTP: 0; Clock Mgmt Tiles (CMTs): 5; Logic Cells: 33280; Available User I/O: 170; Speed Grades: 1; NexusDeviceID: XC7A35T-1FTG256C; DatasheetVersion: v1.15; PackageVersion: Rev. 1.11; PackageReference: FTG-256; PackageDescription: 256-Ball Wire-Bond Fine-Pitch Thin BGA, Body 17 x 17 mm, Pitch 1 mm; Maximum Distributed RAM: 400 Kb; Operating Temperature Range: Commercial; Mounting Technology: Surface Mount; PartNumber: XC7A35T-1FTG256C; ComponentLink1Description: Manufacturer URL; ComponentLink1URL: http://www.xilinx.com/; ComponentLink2Description: Datasheet; ComponentLink2URL: http://www.xilinx.com/support/documentation/data_sheets/ds180_7Series_Overview.pdf; ComponentLink3Description: Package Specification; ComponentLink3URL: http://www.xilinx.com/support/documentation/user_guides/ug475_7Series_Pkg_Pinout.pdf; ComponentLink4Description: DC and Switching Characteristics; ComponentLink4URL: http://www.xilinx.com/support/documentation/data_sheets/ds181_Artix_7_Data_Sheet.pdf; ComponentLink5Description: Package File; ComponentLink5URL: http://www.xilinx.com/support/packagefiles/a7packages/xc7a200tsbg484pkg.txt; ComponentLink6Description: Packaging and Pinout; ComponentLink6URL: http://www.xilinx.com/support/documentation/user_guides/ug475_7Series_Pkg_Pinout.pdf
footprint FTG256 (BGA, 256-Balls, Body 17x17mm, Pitch 1mm)
part A pins: J13 IO_L1P_T0_D00_MOSI_14 (io), J14 IO_L1N_T0_D01_DIN_14 (io), K12 IO_0_14 (io), K13 IO_L5P_T0_D06_14 (io), K15 IO_L2P_T0_D02_14 (io), K16 IO_L2N_T0_D03_14 (io), L12 IO_L6P_T0_FCS_B_14 (io), L13 IO_L5N_T0_D07_14 (io), L14 IO_L4P_T0_D04_14 (io), L15 IO_L3P_T0_DQS_PUDC_B_14 (io), M6 IO_L19P_T3_A10_D26_14 (io), M12 IO_L6N_T0_D08_VREF_14 (io), M14 IO_L4N_T0_D05_14 (io), M15 IO_L3N_T0_DQS_EMCCLK_14 (io), M16 IO_L7P_T1_D09_14 (io), N6 IO_L19N_T3_A09_D25_VREF_14 (io), N9 IO_L18P_T2_A12_D28_14 (io), N11 IO_L13P_T2_MRCC_14 (io), N12 IO_L13N_T2_MRCC_14 (io), N13 IO_L11P_T1_SRCC_14 (io), N14 IO_L12P_T1_MRCC_14 (io), N16 IO_L7N_T1_D10_14 (io), P6 IO_25_14 (io), P8 IO_L20P_T3_A08_D24_14 (io), P9 IO_L18N_T2_A11_D27_14 (io), P10 IO_L14P_T2_SRCC_14 (io), P11 IO_L14N_T2_SRCC_14 (io), P13 IO_L11N_T1_SRCC_14 (io), P14 IO_L12N_T1_MRCC_14 (io), P15 IO_L8P_T1_D11_14 (io), P16 IO_L8N_T1_D12_14 (io), R5 IO_L23P_T3_A03_D19_14 (io), R6 IO_L24P_T3_A01_D17_14 (io), R7 IO_L24N_T3_A00_D16_14 (io), R8 IO_L20N_T3_A07_D23_14 (io), R10 IO_L17P_T2_A14_D30_14 (io), R11 IO_L17N_T2_A13_D29_14 (io), R12 IO_L15P_T2_DQS_RDWR_B_14 (io), R13 IO_L16P_T2_CSI_B_14 (io), R15 IO_L9P_T1_DQS_14 (io), R16 IO_L9N_T1_DQS_D13_14 (io), T5 IO_L23N_T3_A02_D18_14 (io), T7 IO_L21P_T3_DQS_14 (io), T8 IO_L21N_T3_DQS_A06_D22_14 (io), T9 IO_L22P_T3_A05_D21_14 (io), T10 IO_L22N_T3_A04_D20_14 (io), T12 IO_L15N_T2_DQS_DOUT_CSO_B_14 (io), T13 IO_L16N_T2_A15_D31_14 (io), T14 IO_L10P_T1_D14_14 (io), T15 IO_L10N_T1_D15_14 (io)
part B pins: A8 IO_L2P_T0_AD8P_15 (io), A9 IO_L2N_T0_AD8N_15 (io), A10 IO_L3N_T0_DQS_AD1N_15 (io), A12 IO_L5N_T0_AD9N_15 (io), A13 IO_L7P_T1_AD2P_15 (io), A14 IO_L7N_T1_AD2N_15 (io), A15 IO_L9N_T1_DQS_AD3N_15 (io), B9 IO_L3P_T0_DQS_AD1P_15 (io), B10 IO_L4P_T0_15 (io), B11 IO_L4N_T0_15 (io), B12 IO_L5P_T0_AD9P_15 (io), B14 IO_L8N_T1_AD10N_15 (io), B15 IO_L9P_T1_DQS_AD3P_15 (io), B16 IO_L10N_T1_AD11N_15 (io), C8 IO_L1P_T0_AD0P_15 (io), C9 IO_L1N_T0_AD0N_15 (io), C11 IO_L11P_T1_SRCC_15 (io), C12 IO_L11N_T1_SRCC_15 (io), C13 IO_L12N_T1_MRCC_15 (io), C14 IO_L8P_T1_AD10P_15 (io), C16 IO_L10P_T1_AD11P_15 (io), D8 IO_L6P_T0_15 (io), D9 IO_L6N_T0_VREF_15 (io), D10 IO_0_15 (io), D11 IO_L14N_T2_SRCC_15 (io), D13 IO_L12P_T1_MRCC_15 (io), D14 IO_L15P_T2_DQS_15 (io), D15 IO_L15N_T2_DQS_ADV_B_15 (io), D16 IO_L17N_T2_A25_15 (io), E11 IO_L14P_T2_SRCC_15 (io), E12 IO_L13P_T2_MRCC_15 (io), E13 IO_L13N_T2_MRCC_15 (io), E15 IO_L18N_T2_A23_15 (io), E16 IO_L17P_T2_A26_15 (io), F12 IO_L16P_T2_A28_15 (io), F13 IO_L16N_T2_A27_15 (io), F14 IO_L21N_T3_DQS_A18_15 (io), F15 IO_L18P_T2_A24_15 (io), G11 IO_25_15 (io), G12 IO_L19N_T3_A21_VREF_15 (io), G14 IO_L21P_T3_DQS_15 (io), G15 IO_L24N_T3_RS0_15 (io), G16 IO_L22N_T3_A16_15 (io), H11 IO_L19P_T3_A22_15 (io), H12 IO_L20P_T3_A20_15 (io), H13 IO_L20N_T3_A19_15 (io), H14 IO_L24P_T3_RS1_15 (io), H16 IO_L22P_T3_A17_15 (io), J15 IO_L23P_T3_FOE_B_15 (io), J16 IO_L23N_T3_FWE_B_15 (io)
part C pins: L4 IO_L1P_T0_34 (io), L5 IO_0_34 (io), M1 IO_L2N_T0_34 (io), M2 IO_L2P_T0_34 (io), M4 IO_L1N_T0_34 (io), M5 IO_L6P_T0_34 (io), N1 IO_L4P_T0_34 (io), N2 IO_L3N_T0_DQS_34 (io), N3 IO_L3P_T0_DQS_34 (io), N4 IO_L6N_T0_VREF_34 (io), P1 IO_L4N_T0_34 (io), P3 IO_L5N_T0_34 (io), P4 IO_L5P_T0_34 (io), P5 IO_L10P_T1_34 (io), R1 IO_L7N_T1_34 (io), R2 IO_L7P_T1_34 (io), R3 IO_L8P_T1_34 (io), T2 IO_L8N_T1_34 (io), T3 IO_L9N_T1_DQS_34 (io), T4 IO_L9P_T1_DQS_34 (io)
part D pins: A2 IO_L8N_T1_AD14N_35 (io), A3 IO_L4N_T0_35 (io), A4 IO_L3N_T0_DQS_AD5N_35 (io), A5 IO_L3P_T0_DQS_AD5P_35 (io), A7 IO_L1N_T0_AD4N_35 (io), B1 IO_L9N_T1_DQS_AD7N_35 (io), B2 IO_L8P_T1_AD14P_35 (io), B4 IO_L4P_T0_35 (io), B5 IO_L2N_T0_AD12N_35 (io), B6 IO_L2P_T0_AD12P_35 (io), B7 IO_L1P_T0_AD4P_35 (io), C1 IO_L9P_T1_DQS_AD7P_35 (io), C2 IO_L7N_T1_AD6N_35 (io), C3 IO_L7P_T1_AD6P_35 (io), C4 IO_L12N_T1_MRCC_35 (io), C6 IO_L5N_T0_AD13N_35 (io), C7 IO_L5P_T0_AD13P_35 (io), D1 IO_L10N_T1_AD15N_35 (io), D3 IO_L11N_T1_SRCC_35 (io), D4 IO_L12P_T1_MRCC_35 (io), D5 IO_L6N_T0_VREF_35 (io), D6 IO_L6P_T0_35 (io), E1 IO_L15N_T2_DQS_35 (io), E2 IO_L10P_T1_AD15P_35 (io), E3 IO_L11P_T1_SRCC_35 (io), E5 IO_L13N_T2_MRCC_35 (io), E6 IO_0_35 (io), F2 IO_L15P_T2_DQS_35 (io), F3 IO_L14N_T2_SRCC_35 (io), F4 IO_L14P_T2_SRCC_35 (io), F5 IO_L13P_T2_MRCC_35 (io), G1 IO_L17N_T2_35 (io), G2 IO_L17P_T2_35 (io), G4 IO_L16N_T2_35 (io), G5 IO_L16P_T2_35 (io), H1 IO_L20N_T3_35 (io), H2 IO_L20P_T3_35 (io), H3 IO_L21N_T3_DQS_35 (io), H4 IO_L18N_T2_35 (io), H5 IO_L18P_T2_35 (io), J1 IO_L22N_T3_35 (io), J3 IO_L21P_T3_DQS_35 (io), J4 IO_L19N_T3_VREF_35 (io), J5 IO_L19P_T3_35 (io), K1 IO_L22P_T3_35 (io), K2 IO_L24N_T3_35 (io), K3 IO_L24P_T3_35 (io), K5 IO_25_35 (io), L2 IO_L23N_T3_35 (io), L3 IO_L23P_T3_35 (io)
part E pins: E7 CFGBVS_0 (in), E8 CCLK_0 (io), H7 VREFN_0 (in), H8 VP_0 (in), H10 DONE_0 (io), J7 VN_0 (in), J8 VREFP_0 (in), K7 DXN_0 (in), K8 DXP_0 (in), K10 INIT_B_0 (io), L7 TCK_0 (in), L9 PROGRAM_B_0 (in), M7 TMS_0 (in), M9 M0_0 (in), M10 M1_0 (in), M11 M2_0 (in), N7 TDI_0 (in), N8 TDO_0 (out)
part F pins: A6 VCCO_35 (power), A16 VCCO_15 (power), B3 VCCO_35 (power), B13 VCCO_15 (power), C10 VCCO_15 (power), D7 VCCO_35 (power), E4 VCCO_35 (power), E14 VCCO_15 (power), F1 VCCO_35 (power), H15 VCCO_15 (power), J2 VCCO_35 (power), J12 VCCO_15 (power), L6 VCCO_0 (power), L16 VCCO_14 (power), M3 VCCO_34 (power), M13 VCCO_14 (power), N10 VCCO_14 (power), P7 VCCO_14 (power), R4 VCCO_34 (power), R14 VCCO_14 (power), T1 VCCO_34 (power), T11 VCCO_14 (power)
part G pins: E10 VCCBRAM (power), F7 VCCINT (power), F8 VCCBATT_0 (power), F9 VCCINT (power), F11 VCCBRAM (power), G6 VCCINT (power), G8 VCCADC_0 (power), G10 VCCAUX (power), H9 VCCINT (power), J6 VCCINT (power), J10 VCCAUX (power), K9 VCCINT (power), K11 VCCAUX (power), L8 VCCINT (power), L10 VCCAUX (power)
part H pins: A1 GND (power), A11 GND (power), B8 GND (power), C5 GND (power), C15 GND (power), D2 GND (power), D12 GND (power), E9 GND (power), F6 GND (power), F10 GND (power), F16 GND (power), G3 GND (power), G7 GNDADC_0 (power), G9 GND (power), G13 GND (power), H6 GND (power), J9 GND (power), J11 GND (power), K4 GND (power), K6 GND (power), K14 GND (power), L1 GND (power), L11 GND (power), M8 GND (power), N5 GND (power), N15 GND (power), P2 GND (power), P12 GND (power), R9 GND (power), T6 GND (power), T16 GND (power)
part A text: BANK 14
part B text: BANK 15
part C text: BANK 34
part D text: BANK 35

## ZLDO1117G12TA
designator U?
IC REG LDO 1A 1.2V SOT-223; MFG: Diodes Inc; MFG_PN: ZLDO1117G12TA
footprint SOT-223 (SOT223, 4-Leads, Body 6.5x3.5mm, Pitch 2.3mm, Lead Span 7mm, IPC High Density)
pins: 1 Adj, 2 Vout, 3 Vin

## ZLDO1117G15TA
designator U?
IC REG LDO 1A 1.5V SOT-223; MFG: Diodes Inc; MFG_PN: ZLDO1117G15TA
footprint SOT-223 (SOT223, 4-Leads, Body 6.5x3.5mm, Pitch 2.3mm, Lead Span 7mm, IPC High Density)
pins: 1 Adj, 2 Vout, 3 Vin

## ZLDO1117K33TC
designator U?
IC REG LDO 1A 3.3V TO252-3; MFG: Diodes Inc; MFG_PN: ZLDO1117K33TC
footprint TO252 (T0252)
pins: 1 Adj, 2 Vout, 3 Vin